# EAGLE library part HUMIDITYSENSOR (library P442)
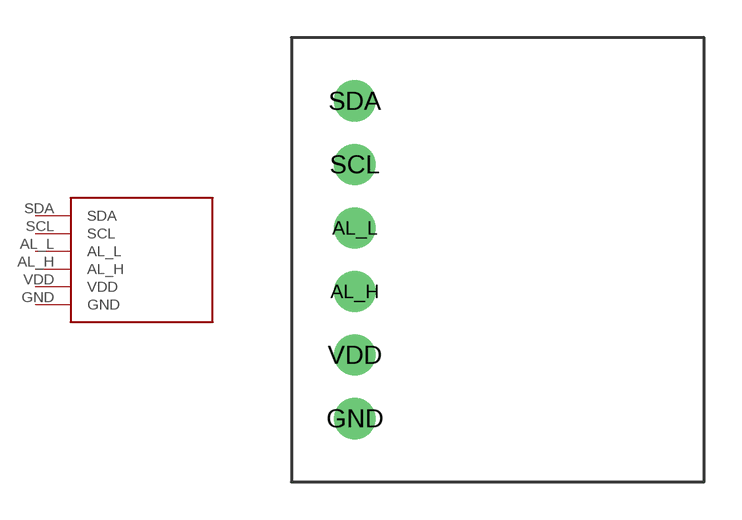
[diagram p13: symbol with the pads of HUMIDITYSENSOR; footprint HUMIDITYSENSOR]

Designator prefix -

## HUMIDITYSENSOR  [HUMIDITYSENSOR]
AL_H  AL_H
AL_L  AL_L
GND  GND
SCL  SCL
SDA  SDA
VDD  VDD

## Footprint HUMIDITYSENSOR (pad centres in mm)
drill 1.1: AL_H 0,-7.62; AL_L 0,-5.08; GND 0,-12.7; SCL 0,-2.54; SDA 0,0; VDD 0,-10.16